# EAGLE library part NHD-C160100AZ-RN-GBW (library Pygmy)
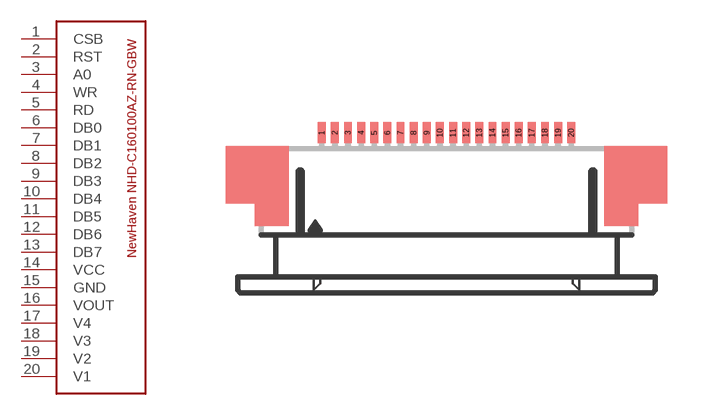
[diagram p59: symbol with the pads of 52745-2090; footprint 52745-2090]

Designator prefix -

## NHD-C160100AZ-RN-GBW  [52745-2090]
1  CSB
2  RST
3  A0
4  WR
5  RD
6  DB0
7  DB1
8  DB2
9  DB3
10  DB4
11  DB5
12  DB6
13  DB7
14  VCC
15  GND
16  VOUT
17  V4
18  V3
19  V2
20  V1

## Footprint 52745-2090 (pad centres in mm)
FFC/FPC-to-Board 0.50mm (.020") SMT Top Contact Right Angle, ZIF, Style Receptacle 52745 / 52435 Source: http://www.molex.com/product/ffc/52745.html
smd 0.3 x 0.8: 1 -4.75,2.5; 2 -4.25,2.5; 3 -3.75,2.5; 4 -3.25,2.5; 5 -2.75,2.5; 6 -2.25,2.5; 7 -1.75,2.5; 8 -1.25,2.5; 9 -0.75,2.5; 10 -0.25,2.5; 11 0.25,2.5; 12 0.75,2.5; 13 1.25,2.5; 14 1.75,2.5; 15 2.25,2.5; 16 2.75,2.5; 17 3.25,2.5; 18 3.75,2.5; 19 4.25,2.5; 20 4.75,2.5